# Altium footprint library MI LIBRERIA.PcbLib: 19 footprints (part 2 of 2)
Each footprint in its own frame and in the unit in brackets; x right, y up, seen from the top. Pads: shape width x height; smd on the part's side, far side on the other; paste and mask are expansions set on the pad; w line width, h text height; cw(c..) or ccw(c..) is an arc to the next point about the centre after c.
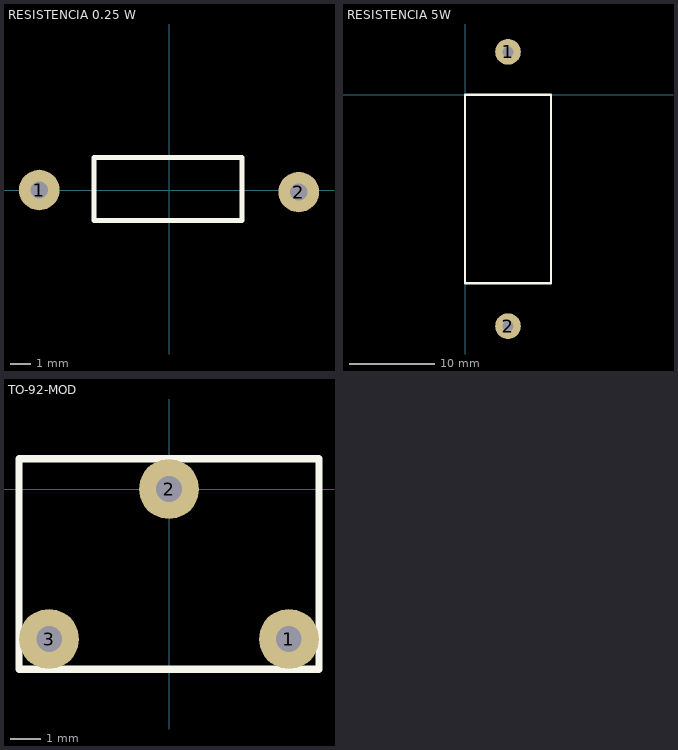
[diagram p1: the footprints below, top view; thin cyan lines are the x and y axes]

## RESISTENCIA 0.25 W [mm]
pads (2):
  round 2 hole 0.85: 1(-6.4,0) 2(6.4,-0.1)
Top Overlay:
  lines w0.25: -3.7,-1.5 -3.7,1.6 3.6,1.6 3.6,-1.5 -3.7,-1.5
3D body "SW3dPS-resistor 0.25w.STEP": height 2.54, standoff -3.05, extent -6.629,-1.27 6.629,1.27

## RESISTENCIA 5W [mm]
pads (2):
  round 3 hole 1.3: 1(5,5) 2(5,-27)
Top Overlay:
  lines w0.254: 0,-22 0,0 10,0 10,-22 0,-22

## TO-92-MOD [mm]
pads (3):
  round 2 hole 0.85: 1(4,-5) 2(0,0) 3(-4,-5)
Top Overlay:
  lines w0.25: -5,-6 -5,1 5,1 5,-6 -5,-6